# EAGLE library part AT42QT2120_COMMS (library appfruits)
AT42QT2120 in Comms Mode in SSOP20 Package
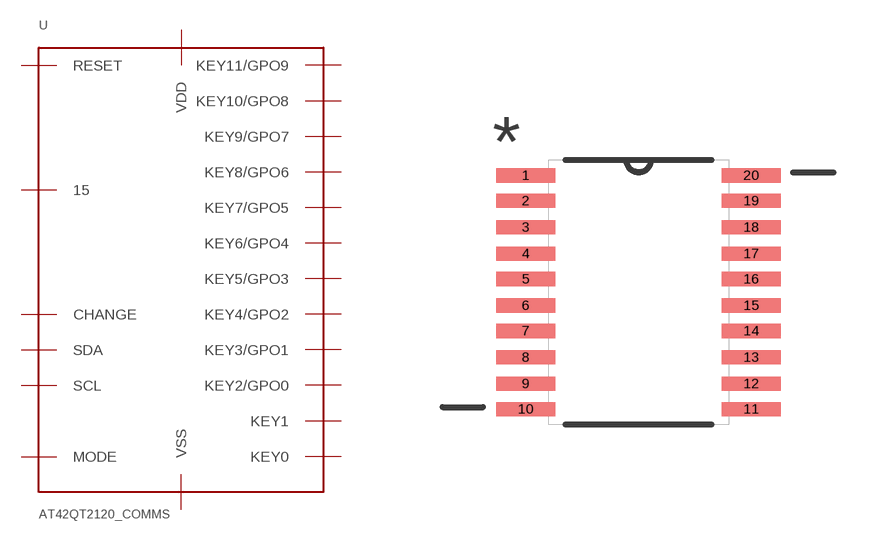
[diagram p8: symbol with the pads of QT2120; footprint QT2120]

Designator prefix -

## AT42QT2120_COMMS  [QT2120]
1  KEY8/GPO6
2  KEY7/GPO5
3  KEY6/GPO4
4  KEY5/GPO3
5  KEY4/GPO2
6  KEY3/GPO1
7  KEY2/GPO0
8  KEY1
9  KEY0
10  VSS
11  VDD
12  MODE
13  SDA
14  RESET
15  15
16  SCL
17  CHANGE
18  KEY11/GPO9
19  KEY10/GPO8
20  KEY9/GPO7

## Footprint QT2120 (pad centres in mm)
Atmel AT48QT2120 Touch Sensor in TSSOP-20 Package
smd 1.473 x 0.356: 1 -2.819,2.921; 2 -2.819,2.286; 3 -2.819,1.626; 4 -2.819,0.965; 5 -2.819,0.33; 6 -2.819,-0.33; 7 -2.819,-0.965; 8 -2.819,-1.626; 9 -2.819,-2.286; 10 -2.819,-2.921; 11 2.819,-2.921; 12 2.819,-2.286; 13 2.819,-1.626; 14 2.819,-0.965; 15 2.819,-0.33; 16 2.819,0.33; 17 2.819,0.965; 18 2.819,1.626; 19 2.819,2.286; 20 2.819,2.921